# EAGLE library part L2726 (library ST Microelectronics)
LOW DROP DUAL POWER OPERATIONAL AMPLIFIER
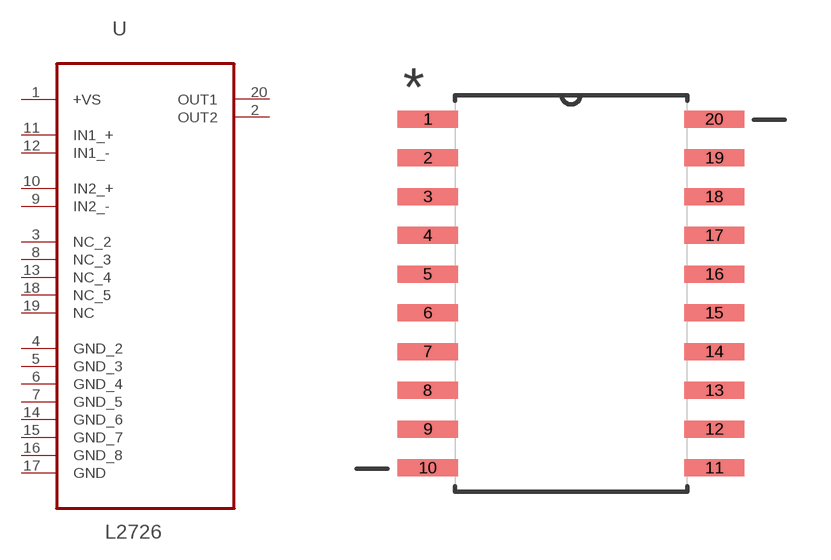
[diagram p28: symbol with the pads of SOIC127P1032X265-20N; footprint SOIC127P1032X265-20N]

Designator prefix U

## L2726 (MPN: L2726; OC_FARNELL: 1842574; OC_NEWARK: 13T9473; PACKAGE: SOIC-20; SUPPLIER: STMICROELECTRONICS)  [SOIC127P1032X265-20N]
1  +VS  pwr
2  OUT2  out
3  NC_2  nc
4  GND_2  pas
5  GND_3  pas
6  GND_4  pas
7  GND_5  pas
8  NC_3  nc
9  IN2_-  in
10  IN2_+  in
11  IN1_+  in
12  IN1_-  in
13  NC_4  nc
14  GND_6  pas
15  GND_7  pas
16  GND_8  pas
17  GND  pas
18  NC_5  nc
19  NC  nc
20  OUT1  out

## Footprint SOIC127P1032X265-20N (pad centres in mm)
smd 1.981 x 0.559: 1 -4.699,5.715; 2 -4.699,4.445; 3 -4.699,3.175; 4 -4.699,1.905; 5 -4.699,0.635; 6 -4.699,-0.635; 7 -4.699,-1.905; 8 -4.699,-3.175; 9 -4.699,-4.445; 10 -4.699,-5.715; 11 4.699,-5.715; 12 4.699,-4.445; 13 4.699,-3.175; 14 4.699,-1.905; 15 4.699,-0.635; 16 4.699,0.635; 17 4.699,1.905; 18 4.699,3.175; 19 4.699,4.445; 20 4.699,5.715